# Altium footprint library PDU.PcbLib: 35 footprints (part 3 of 3)
Each footprint in its own frame and in the unit in brackets; x right, y up, seen from the top. Pads: shape width x height; smd on the part's side, far side on the other; paste and mask are expansions set on the pad; w line width, h text height; cw(c..) or ccw(c..) is an arc to the next point about the centre after c.
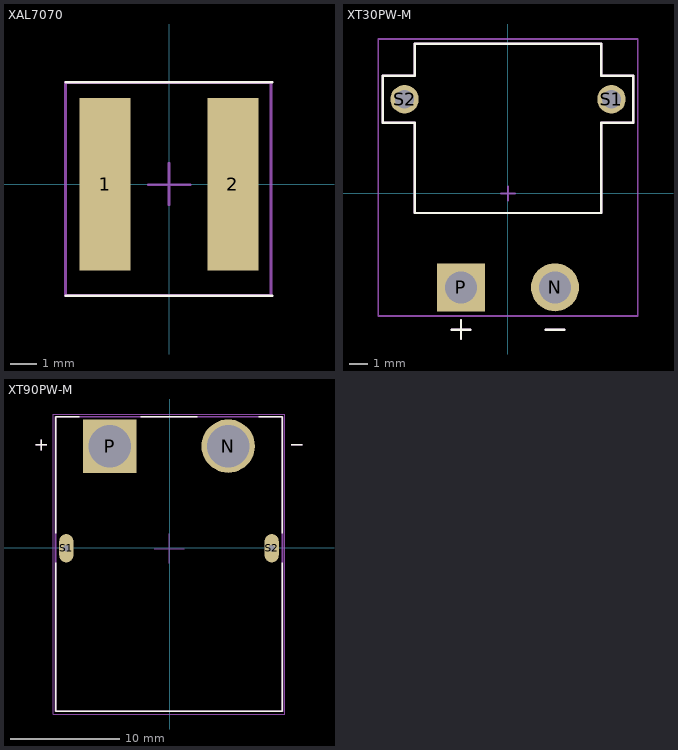
[diagram p2: the footprints below, top view; thin cyan lines are the x and y axes]

## XAL7070 [mm] "XAL7070-222MEC"
pads (2):
  rect 1.92x6.5 smd paste-2539.97 mask+0.05: 1(-2.41,0) 2(2.41,0)
Top Overlay:
  lines w0.1: -3.89,-4.21 3.89,-4.21 ; -3.89,3.85 3.89,3.85
Top 3D Body:
  lines w0.1: -3.91,-4.21 3.85,-4.21 3.85,3.84 -3.86,3.84 -3.91,3.84 -3.91,-4.21
Top Component Center:
  lines w0.1: -0.771,-0.013 0.799,-0.013 ; 0,-0.78 0,0.79 ; -3.89,-4.2 3.85,-4.2 3.85,3.84 -3.89,3.84 -3.89,-4.2
3D body "XAL7070.step": height 6.6, standoff -0.4, extent -3.88,-4.19 3.82,3.81

## XT30PW-M [mm]
pads (4):
  round 2.55 hole 1.7: N(2.5,-5)
  rect 2.55x2.55 / inner round 2.55 / far side rect 2.55x2.55 hole 1.7: P(-2.5,-5)
  round 1.508 hole 1: S1(5.5,5) S2(-5.5,5)
Top Overlay:
  lines w0.127: -3,-7.25 -2,-7.25 ; -2.5,-7.75 -2.5,-6.75 ; 2,-7.25 3,-7.25 ; -6.65,3.75 -4.95,3.75 -4.95,-1.05 4.95,-1.05 4.95,3.75 6.65,3.75 6.65,6.25 4.95,6.25 4.95,7.95 -4.95,7.95 -4.95,6.25 -6.65,6.25 -6.65,3.75
Top 3D Body:
  lines w0.127: -3,-7.25 -2,-7.25 ; -2.5,-7.75 -2.5,-6.75 ; 2,-7.25 3,-7.25 ; -6.65,3.75 -6.65,6.25 -4.95,6.25 -4.95,7.95 4.95,7.95 4.95,6.25 6.65,6.25 6.65,3.75 4.95,3.75 4.95,-1.05 -4.95,-1.05 -4.95,3.75 -6.65,3.75
Top Component Center:
  lines w0.1: -0.367,-0.016 0.383,-0.016 ; 0,-0.38 0,0.37 ; -6.9,-6.525 -6.9,8.2 6.9,8.2 6.9,-6.525 -6.9,-6.525
Top Designator:
  text ".Designator" at 1.064,1.102 h1.52
3D body "step_temp.STEP": height 5, standoff -2, extent -6.65,-6 6.65,7.95

## XT90PW-M [mm] "BAT"
pads (4):
  round 4.916 hole 3.9: N(5.4,9.35)
  rect 4.916x4.916 / inner round 4.916 / far side rect 4.916x4.916 hole 3.9: P(-5.5,9.35)
  oval 1.3x2.6 hole 0.6 square: S1(-9.5,-0.05) S2(9.4,-0.05)
Top Overlay:
  lines w0.127: -12.3,9.45 -11.3,9.45 ; -11.8,8.95 -11.8,9.95 ; -10.45,-1.4 -10.45,-15.05 10.35,-15.05 10.35,-1.4 ; -10.45,1.35 -10.45,12.05 -8.3,12.05 ; -2.65,12.05 2.55,12.05 ; 8.2,12.05 10.35,12.05 10.35,1.35 ; 11.2,9.45 12.2,9.45
Top 3D Body:
  lines w0.127: -12.3,9.45 -11.3,9.45 ; -11.8,8.95 -11.8,9.95 ; 11.2,9.45 12.2,9.45 ; -10.45,-15.05 10.35,-15.05 10.35,12.05 -10.45,12.05 -10.45,-15.05
Top Component Center:
  lines w0.1: -1.397,-0.087 1.333,-0.087 ; -0.04,-1.44 -0.03,-1.44 -0.03,1.29 -0.04,1.29 ; -10.53,-15.04 10.44,-15.04 10.44,12.04 -10.43,12.04 -10.53,12.04 -10.53,-15.04
Top Courtyard:
  lines w0.05: -10.7,-15.3 10.6,-15.3 10.6,12.3 -10.7,12.3 -10.7,-15.3
3D body "step_temp.STEP": height 10.3, standoff -3.2, extent -10.65,-15.05 10.55,12.05